# Altium footprint library PCB - LEADED - SOIC127P600X175-16N.PCBLIB: 1 footprints
Each footprint in its own frame and in the unit in brackets; x right, y up, seen from the top. Pads: shape width x height; smd on the part's side, far side on the other; paste and mask are expansions set on the pad; w line width, h text height; cw(c..) or ccw(c..) is an arc to the next point about the centre after c.
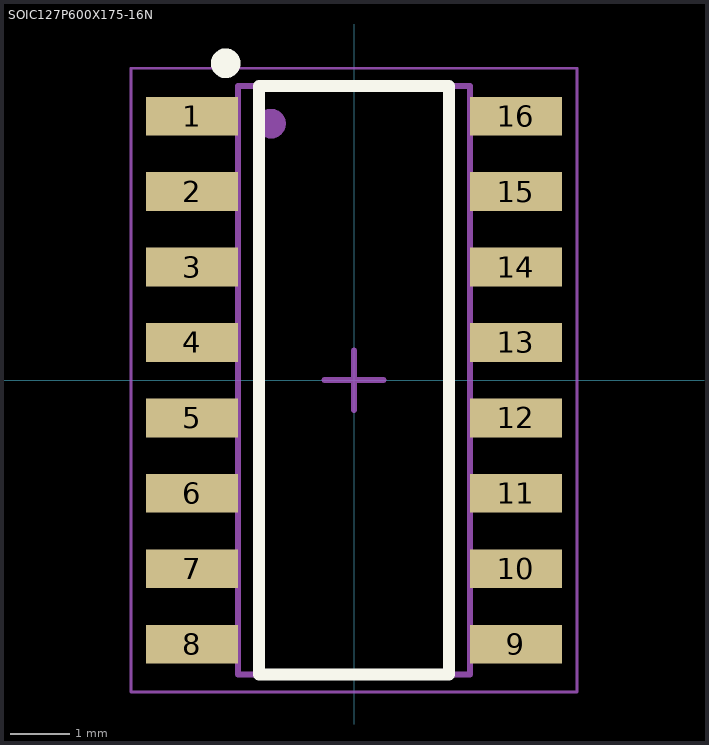
[diagram p0: the footprint, top view; thin cyan lines are the x and y axes]

## SOIC127P600X175-16N [mm]
pads (16):
  rect 1.55x0.65 smd: 1(-2.725,4.445) 2(-2.725,3.175) 3(-2.725,1.905) 4(-2.725,0.635) 5(-2.725,-0.635) 6(-2.725,-1.905) 7(-2.725,-3.175) 8(-2.725,-4.445) 9(2.725,-4.445) 10(2.725,-3.175) 11(2.725,-1.905) 12(2.725,-0.635) 13(2.725,0.635) 14(2.725,1.905) 15(2.725,3.175) 16(2.725,4.445)
Top Overlay:
  circle w0.25: c-2.159,5.334 r0.125
  lines w0.2: -1.6,-4.95 -1.6,4.95 1.6,4.95 1.6,-4.95 -1.6,-4.95
Top Assembly:
  circle w0.25: c-1.397,4.318 r0.125
  lines w0.1: -1.95,-4.95 1.95,-4.95 1.95,4.95 -1.95,4.95 -1.95,-4.95
Top Courtyard:
  lines w0.05: -3.75,-5.25 -3.75,5.25 3.75,5.25 3.75,-5.25 -3.75,-5.25
Top Designator:
  text ".Designator" at -1.524,-0.762 h1.5
Top Component Center (Mech11):
  lines w0.1: -0.5,0 0.5,0 ; 0,-0.5 0,0.5
3D body "MC14504BDR2G.stp": height 1.75, standoff 0, extent -3,-4.95 3,4.95